# Altium schematic symbol library TSU104.SchLib: 1 symbol
Pins are listed as number, name and electrical type; pins without a type are passive.

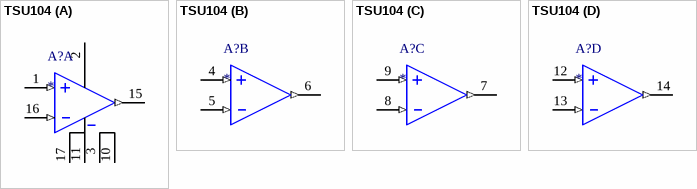
[diagram p0: symbol TSU104]

## TSU104
designator A?
Quad Micropower Precision RRIO CMOS Op-Amp
part A pins: 1 INA_POS (in), 2 VDD (power), 3 NC, 10 NC, 11 VSS (power), 15 OUTA (out), 16 INA_NEG (in), 17 PAD (power)
part B pins: 4 INB_POS (in), 5 INB_NEG (in), 6 OUTB (out)
part C pins: 7 OUTC (out), 8 INC_NEG (in), 9 INC_POS (in)
part D pins: 12 IND_POS (in), 13 IND_NEG (in), 14 OUTD (out)